# EAGLE library part INA211A (library ubo_PQ60)
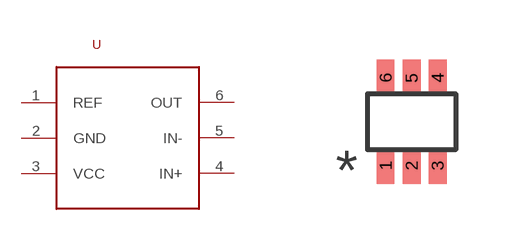
[diagram p9: symbol with the pads of SC-70; footprint SC-70]

Designator prefix -

## INA211A  [SC-70]
1  REF
2  GND
3  VCC
4  IN+
5  IN-
6  OUT

## Footprint SC-70 (pad centres in mm)
smd 0.45 x 0.9: 1 -0.65,-1.1; 2 0,-1.1; 3 0.65,-1.1; 4 0.65,1.1; 5 0,1.1; 6 -0.65,1.1